# Altium footprint library LY.PcbLib: 39 footprints (part 1 of 3)
Each footprint in its own frame and in the unit in brackets; x right, y up, seen from the top. Pads: shape width x height; smd on the part's side, far side on the other; paste and mask are expansions set on the pad; w line width, h text height; cw(c..) or ccw(c..) is an arc to the next point about the centre after c.
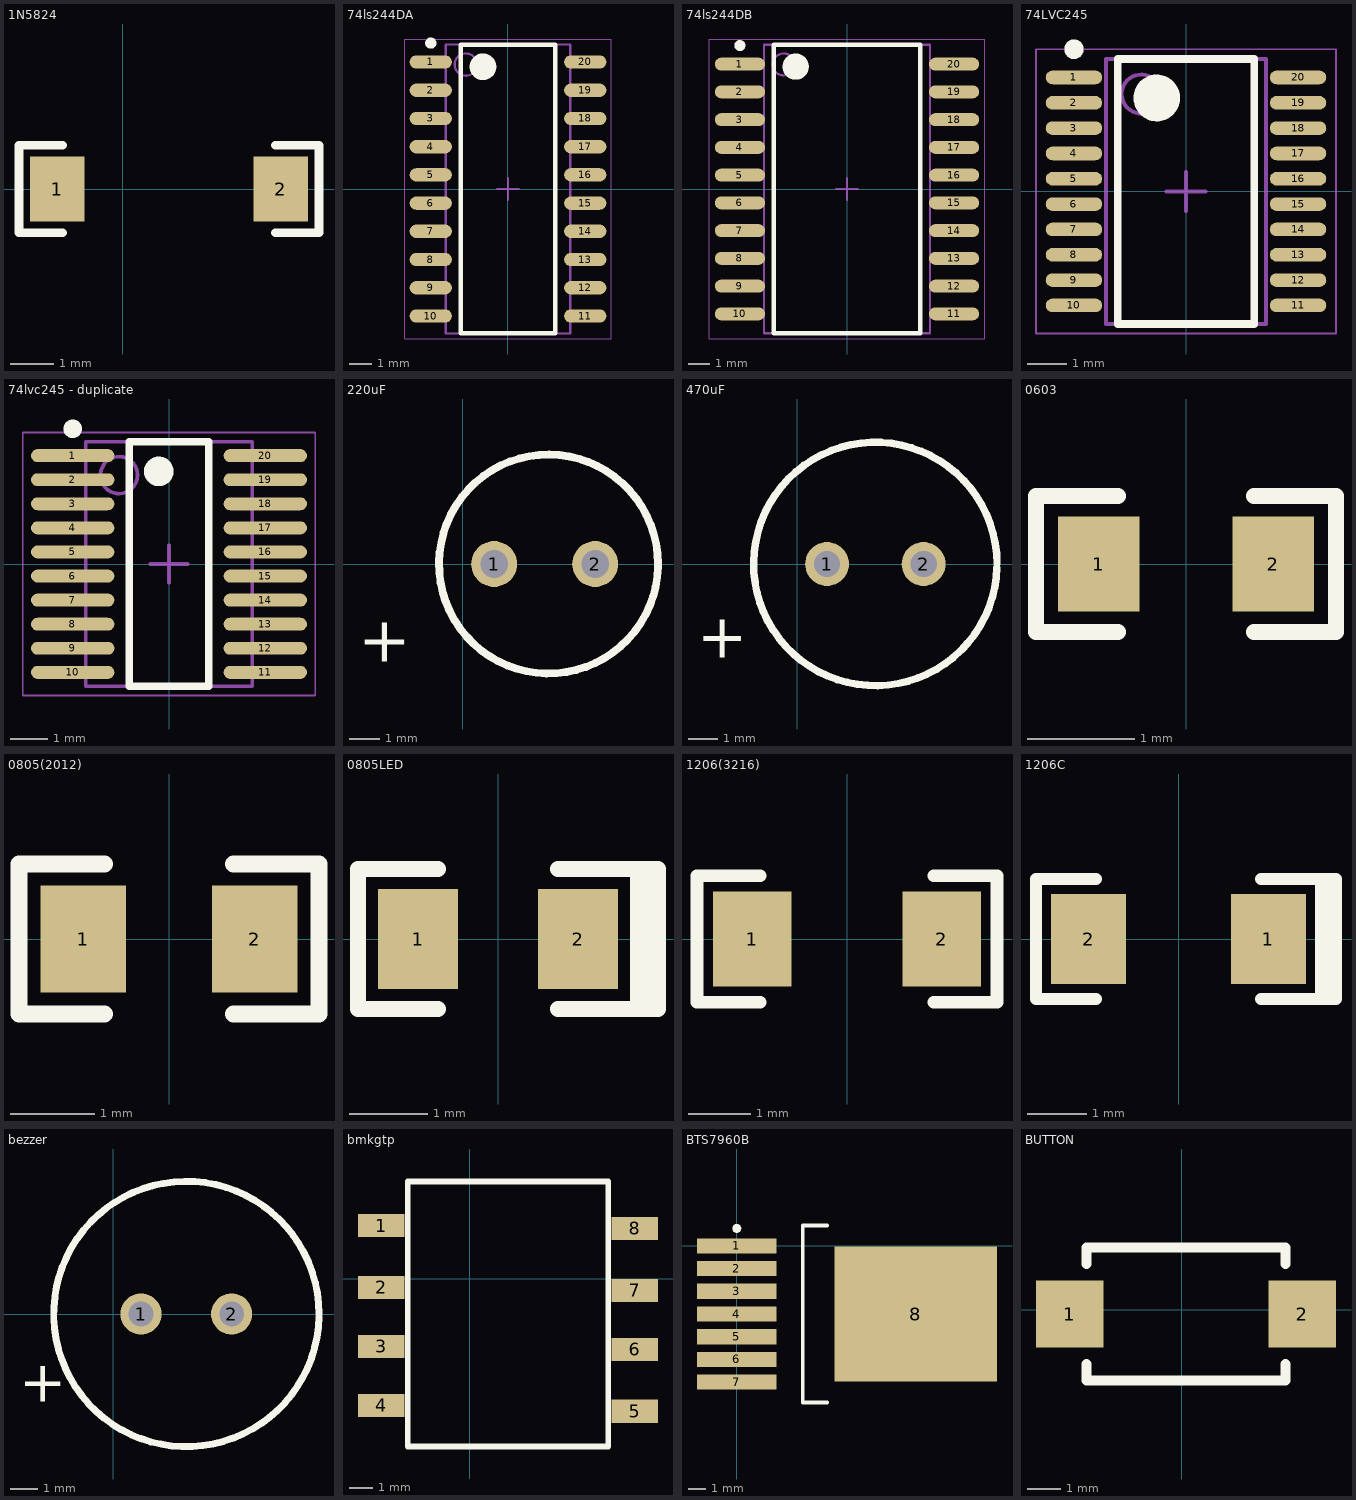
[diagram p0: the footprints below, top view; thin cyan lines are the x and y axes]

## 1N5824 [mil]
pads (2):
  rect 50x60 smd: 1(-60,0) 2(145,0)
Top Overlay:
  lines w7.87: -95,-40 -55,-40 ; -95,40 -55,40 ; 140,-40 180,-40 ; 140,40 180,40
  lines w8: -95,-40 -95,40 ; 180,-40 180,40

## 74ls244DA [mm] "SOP, 20-Leads, Body 12.80x5.50mm, Pitch 1.27mm, IPC Medium Density"
height 2.2
pads (20):
  oval 1.9x0.6 smd: 1(-3.475,5.715) 2(-3.475,4.445) 3(-3.475,3.175) 4(-3.475,1.905) 5(-3.475,0.635) 6(-3.475,-0.635) 7(-3.475,-1.905) 8(-3.475,-3.175) 9(-3.475,-4.445) 10(-3.475,-5.715) 11(3.475,-5.715) 12(3.475,-4.445) 13(3.475,-3.175) 14(3.475,-1.905) 15(3.475,-0.635) 16(3.475,0.635) 17(3.475,1.905) 18(3.475,3.175) 19(3.475,4.445) 20(3.475,5.715)
Top Overlay:
  circle w0.6: c-1.125,5.5 r0.3
  circle w0.25: c-3.475,6.565 r0.125
  lines w0.2: -2.125,-6.5 2.125,-6.5 2.125,6.5 -2.125,6.5 -2.125,-6.5
Mechanical 13:
  circle w0.1: c-1.9,5.6 r0.5
  lines w0.1: -2.8,-6.5 2.8,-6.5 2.8,6.5 -2.8,6.5 -2.8,-6.5
Mechanical 15:
  lines w0.05: -4.65,-6.75 4.65,-6.75 4.65,6.75 -4.65,6.75 -4.65,-6.75
  lines w0.1: -0.5,0 0.5,0 ; 0,-0.5 0,0.5
3D body: height 2.2, standoff 0.1, extent -2.8,-6.5 2.8,6.5

## 74ls244DB [mm] "SOP, 20-Leads, Body 13.00x7.50mm, Pitch 1.27mm, IPC Medium Density"
height 2.65
pads (20):
  oval 2.3x0.6 smd: 1(-4.9,5.715) 2(-4.9,4.445) 3(-4.9,3.175) 4(-4.9,1.905) 5(-4.9,0.635) 6(-4.9,-0.635) 7(-4.9,-1.905) 8(-4.9,-3.175) 9(-4.9,-4.445) 10(-4.9,-5.715) 11(4.9,-5.715) 12(4.9,-4.445) 13(4.9,-3.175) 14(4.9,-1.905) 15(4.9,-0.635) 16(4.9,0.635) 17(4.9,1.905) 18(4.9,3.175) 19(4.9,4.445) 20(4.9,5.715)
Top Overlay:
  circle w0.25: c-4.9,6.565 r0.125
  circle w0.6: c-2.35,5.6 r0.3
  lines w0.2: -3.35,-6.6 -3.35,6.6 3.35,6.6 3.35,-6.6 -3.35,-6.6
Mechanical 13:
  circle w0.1: c-2.9,5.7 r0.5
  lines w0.1: -3.8,-6.6 -3.8,6.6 3.8,6.6 3.8,-6.6 -3.8,-6.6
Mechanical 15:
  lines w0.05: -6.3,-6.85 -6.3,6.85 6.3,6.85 6.3,-6.85 -6.3,-6.85
  lines w0.1: -0.5,0 0.5,0 ; 0,-0.5 0,0.5
3D body: height 2.65, standoff 0.25, extent -3.8,-6.6 3.8,6.6

## 74LVC245 [mm] "TSOP, 20-Leads, Body 6.65x4.00mm, Pitch 0.65mm, IPC Medium Density"
height 1.1
pads (20):
  oval 1.45x0.35 smd: 1(-2.875,2.925) 2(-2.875,2.275) 3(-2.875,1.625) 4(-2.875,0.975) 5(-2.875,0.325) 6(-2.875,-0.325) 7(-2.875,-0.975) 8(-2.875,-1.625) 9(-2.875,-2.275) 10(-2.875,-2.925) 11(2.875,-2.925) 12(2.875,-2.275) 13(2.875,-1.625) 14(2.875,-0.975) 15(2.875,-0.325) 16(2.875,0.325) 17(2.875,0.975) 18(2.875,1.625) 19(2.875,2.275) 20(2.875,2.925)
Top Overlay:
  circle w0.6: c-0.75,2.4 r0.3
  circle w0.25: c-2.875,3.65 r0.125
  lines w0.2: -1.75,-3.4 1.75,-3.4 1.75,3.4 -1.75,3.4 -1.75,-3.4
Mechanical 13:
  circle w0.1: c-1.15,2.5 r0.5
  lines w0.1: -2.05,-3.4 2.05,-3.4 2.05,3.4 -2.05,3.4 -2.05,-3.4
Mechanical 15:
  lines w0.05: -3.85,-3.65 3.85,-3.65 3.85,3.65 -3.85,3.65 -3.85,-3.65
  lines w0.1: -0.5,0 0.5,0 ; 0,-0.5 0,0.5
3D body: height 1.1, standoff 0.16, extent -2.05,-3.4 2.05,3.4

## 74lvc245 - duplicate [mm] "TSOP, 20-Leads, Body 6.50x39.39mm, Pitch 0.65mm, IPC Medium Density"
height 1.2
pads (20):
  oval 2.25x0.35 smd: 1(-2.6,2.925) 2(-2.6,2.275) 3(-2.6,1.625) 4(-2.6,0.975) 5(-2.6,0.325) 6(-2.6,-0.325) 7(-2.6,-0.975) 8(-2.6,-1.625) 9(-2.6,-2.275) 10(-2.6,-2.925) 11(2.6,-2.925) 12(2.6,-2.275) 13(2.6,-1.625) 14(2.6,-0.975) 15(2.6,-0.325) 16(2.6,0.325) 17(2.6,0.975) 18(2.6,1.625) 19(2.6,2.275) 20(2.6,2.925)
Top Overlay:
  circle w0.25: c-2.6,3.65 r0.125
  circle w0.4: c-0.275,2.5 r0.2
  lines w0.2: -1.075,-3.3 -1.075,3.3 1.075,3.3 1.075,-3.3 -1.075,-3.3
Mechanical 13:
  circle w0.1: c-1.35,2.4 r0.5
  lines w0.1: -2.25,-3.3 -2.25,3.3 2.25,3.3 2.25,-3.3 -2.25,-3.3
Mechanical 15:
  lines w0.05: -3.95,-3.55 -3.95,3.55 3.95,3.55 3.95,-3.55 -3.95,-3.55
  lines w0.1: -0.5,0 0.5,0 ; 0,-0.5 0,0.5
3D body: height 1.2, standoff 0.05, extent -2.25,-3.3 2.25,3.3

## 220uF [mm]
height 13
pads (2):
  round 1.5 hole 0.9: 1(1.016,0) 2(4.318,0)
Top Overlay:
  lines w0.254: 6.369,-0.092 cw(c2.794,0) 6.37,0
  text "+" at -3.429,-3.2 h1.5

## 470uF [mm]
height 13
pads (2):
  round 1.5 hole 0.9: 1(1.016,0) 2(4.318,0)
Top Overlay:
  lines w0.254: 6.825,-0.119 cw(c2.667,0) 6.827,0
  text "+" at -3.429,-3.2 h1.5

## 0603 [mil]
pads (2):
  rect 30x35 smd: 1(-32,0) 2(32,0)
Top Overlay:
  lines w5.91: -25,-25 -55,-25 -55,25 -25,25 ; 25,-25 55,-25 55,25 25,25

## 0805(2012) [mil]
pads (2):
  rect 40x50 smd: 1(-40,0) 2(40,0)
Top Overlay:
  lines w7.87: -70,-35 -30,-35 ; -70,35 -30,35 ; 30,-35 70,-35 ; 30,35 70,35
  lines w8: -70,-35 -70,35 ; 70,-35 70,35

## 0805LED [mil]
pads (2):
  rect 40x50 smd: 1(-40,0) 2(40,0)
Top Overlay:
  lines w7.87: -70,-35 -30,-35 ; -70,35 -30,35 ; 30,-35 80,-35 ; 30,35 80,35
  lines w8: -70,-35 -70,35 ; 70,-35 70,35 ; 75,-35 75,35 ; 80,-35 80,35

## 1206(3216) [mil]
pads (2):
  rect 50x60 smd: 1(-60,0) 2(60,0)
Top Overlay:
  lines w7.87: -95,-40 -55,-40 ; -95,40 -55,40 ; 55,-40 95,-40 ; 55,40 95,40
  lines w8: -95,-40 -95,40 ; 95,-40 95,40

## 1206C [mil]
pads (2):
  rect 50x60 smd: 1(60,0) 2(-60,0)
Top Overlay:
  lines w7.87: -95,-40 -55,-40 ; -95,40 -55,40 ; 55,-40 105,-40 ; 55,40 105,40
  lines w8: -95,-40 -95,40 ; 95,-40 95,40 ; 100,-40 100,40 ; 105,-40 105,40

## bezzer [mm]
height 13
pads (2):
  round 1.5 hole 0.9: 1(1.016,0) 2(4.318,0)
Top Overlay:
  lines w0.254: 7.499,-0.095 cw(c2.667,0) 7.5,0
  text "+" at -3.429,-3.2 h1.5

## bmkgtp [mm]
pads (8):
  rect 2x1 smd: 1(-3.81,2.286) 2(-3.81,-0.381) 3(-3.81,-2.921) 4(-3.81,-5.461) 5(7.112,-5.715) 6(7.112,-3.048) 7(7.112,-0.508) 8(7.112,2.159)
Top Overlay:
  lines w0.254: -2.667,-7.239 5.969,-7.239 5.969,3.937 5.969,4.191 5.715,4.191 -2.667,4.191 -2.667,-7.239

## BTS7960B [mm]
height 4.4
pads (8):
  rect 4.45x0.85 smd: 1(0,0) 2(0,-1.27) 3(0,-2.54) 4(0,-3.81) 5(0,-5.08) 6(0,-6.35) 7(0,-7.62)
  rect 9.1x7.55 smd: 8(10,-3.81)
Top Overlay:
  circle w0.25: c0,0.975 r0.125
  lines w0.2: 5.05,-8.76 3.7,-8.76 3.7,1.14 5.05,1.14

## BUTTON [mil]
pads (2):
  rect 80x80 smd: 1(-132.8,-5) 2(142.8,-5)
Top Overlay:
  lines w12: -113.11,-64.06 -113.11,-83.74 123.11,-83.74 123.11,-64.06 ; -113.11,54.06 -113.11,73.74 123.11,73.74 123.11,54.06